# EAGLE library part LT5568 (library Lynx components)
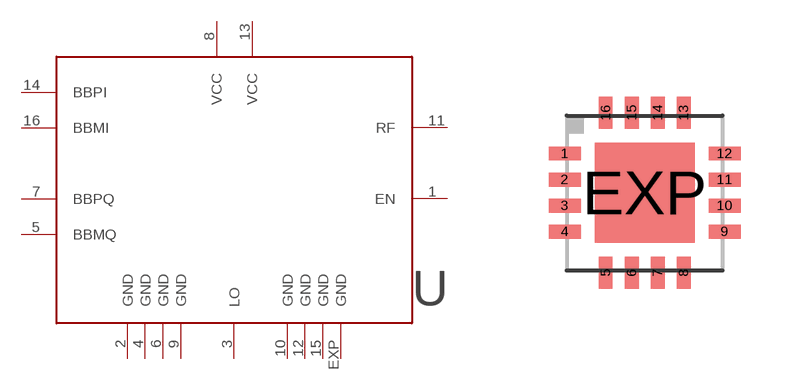
[diagram p3: symbol with the pads of QFN-16; footprint QFN-16]

Designator prefix -

## LT5568  [QFN-16]
1  EN
2  GND  pwr
3  LO
4  GND  pwr
5  BBMQ
6  GND  pwr
7  BBPQ
8  VCC  pwr
9  GND  pwr
10  GND  pwr
11  RF
12  GND  pwr
13  VCC  pwr
14  BBPI
15  GND  pwr
16  BBMI
EXP  GND  pwr

## Footprint QFN-16 (pad centres in mm)
smd 0.8 x 0.35: 1 -2,0.975; 2 -2,0.325; 3 -2,-0.325; 4 -2,-0.975; 9 2,-0.975; 10 2,-0.325; 11 2,0.325; 12 2,0.975
smd 0.35 x 0.8: 5 -0.975,-2; 6 -0.325,-2; 7 0.325,-2; 8 0.975,-2; 13 0.975,2; 14 0.325,2; 15 -0.325,2; 16 -0.975,2
smd 2.5 x 2.5: EXP 0,0